# Altium integrated library SBH11-PBPC-D07-ST-BK.IntLib: 1 symbol
Pins are listed as number, name and electrical type; pins without a type are passive.

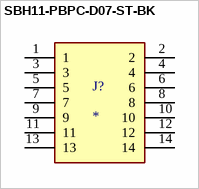
[diagram p0: symbol SBH11-PBPC-D07-ST-BK]

## SBH11-PBPC-D07-ST-BK
designator J?
Connector Header Through Hole 14 position 0.100 (2.54mm); MP: SBH11-PBPC-D07-ST-BK; MF: Sullins Connector; Value: *; Check_prices: https://www.snapeda.com/parts/SBH11-PBPC-D07-ST-BK/Sullins%20Connector%20Solutions/view-part/229418/?ref=eda; Availability: Warning; Price: None; Package: None; Purchase-URL: https://pricing.snapeda.com/search/part/SBH11-PBPC-D07-ST-BK/?ref=eda; SnapEDA_Link: https://www.snapeda.com/parts/SBH11-PBPC-D07-ST-BK/Sullins%20Connector%20Solutions/view-part/229418/?ref=snap
footprint SULLINS_SBH11-PBPC-D07-ST-BK
pins: 1, 2, 3, 4, 5, 6, 7, 8, 9, 10, 11, 12, 13, 14